# EAGLE library part 750817014 (library wurth_electronics_midcom_inc_v2-1)
Package Style: EE13/7/4 Mounting: SMD Pins: 9 pins Bobbin: 070-6258 Best pinouts for production vary per application. Please contact Wurth Electronics Midcom, Inc. for assistance with your custom design. Website: Wurth Electronics Midcom <http://www.we-online.com/midcom> Contact us Wurth Electronics Midcom, Inc. 121 Airport Dr. Watertown, SD 57201 Phone: (605) 886-4385 Fax: (605) 886-4486 E-Mail: midcom@we-online.com
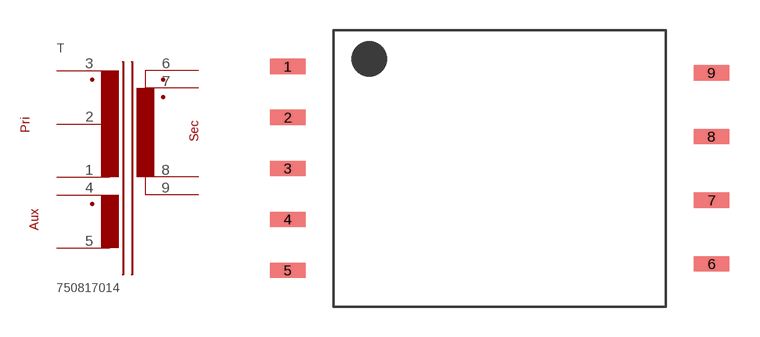
[diagram p48: symbol with the pads of EE13/7/4_SMD_H_9PIN_(6258); footprint EE13/7/4_SMD_H_9PIN_(6258)]

Designator prefix T

## 750817014  [EE13/7/4_SMD_H_9PIN_(6258)]
1  1  pas
2  2  pas
3  3  pas
4  4  pas
5  5  pas
6  6  pas
7  7  pas
8  8  pas
9  9  pas

## Footprint EE13/7/4_SMD_H_9PIN_(6258) (pad centres in mm)
Package Style: EE13/7/4 Mounting: SMD Pins: 9 Bobbin: 070-6258
smd 1.778 x 0.762: 1 -10.554,5.08; 2 -10.554,2.54; 3 -10.554,0; 4 -10.554,-2.54; 5 -10.554,-5.08; 6 10.554,-4.763; 7 10.554,-1.587; 8 10.554,1.587; 9 10.554,4.763